# Altium footprint library PcbLib1.PcbLib: 23 footprints (part 2 of 2)
Each footprint in its own frame and in the unit in brackets; x right, y up, seen from the top. Pads: shape width x height; smd on the part's side, far side on the other; paste and mask are expansions set on the pad; w line width, h text height; cw(c..) or ccw(c..) is an arc to the next point about the centre after c.
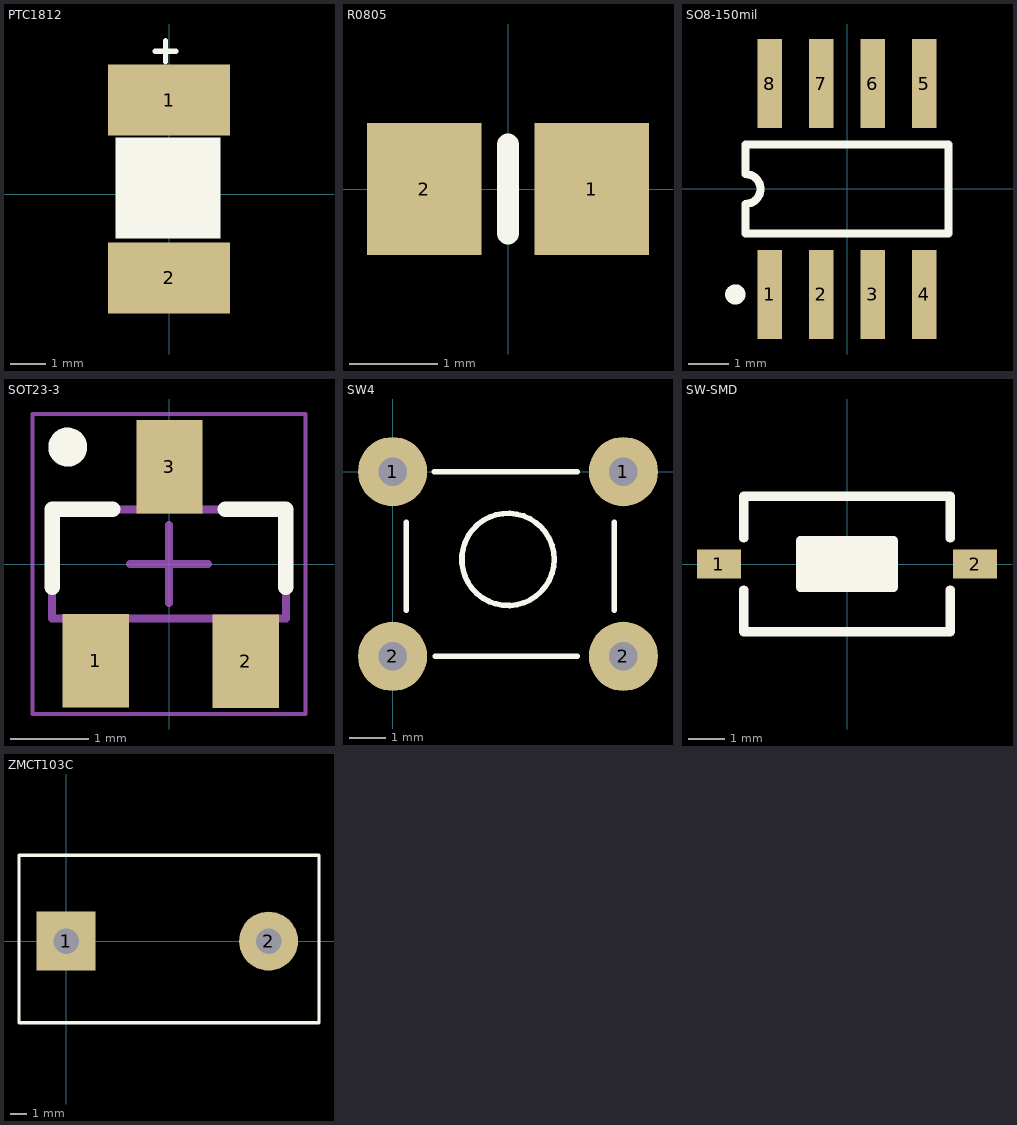
[diagram p1: the footprints below, top view; thin cyan lines are the x and y axes]

## PTC1812 [mm]
pads (2):
  rect 3.5x2.032 smd: 1(0,2.7) 2(0,-2.395)
Top Overlay:
  region: -1.529,1.633 -1.529,-1.267 1.471,-1.267 1.471,1.633
  lines w0.152: -0.4,4.098 0.2,4.098 ; -0.1,3.799 -0.1,4.4
3D body "SW3dPS-1812L.STEP": height 1.34, standoff 0, extent -1.734,-2.06 1.676,2.67

## R0805 [mm] "Chip Resistor; Body 2.0 x 1.2 mm (LxW typ)"
height 1.1
pads (2):
  rect 1.3x1.5 smd: 1(0.95,0) 2(-0.95,0)
Top Overlay:
  lines w0.254: 0,-0.5 0,0.5
3D body "Resistor0805.step": height 0.78, standoff 0, extent -1,-0.65 1,0.6

## SO8-150mil [mm] "Small Outline; 8 Leads; Body Width 3.9 mm; Pitch 1.27 mm"
height 1.75
pads (8):
  rect 0.6x2.2 smd: 1(-1.905,-2.6) 2(-0.635,-2.6) 3(0.635,-2.6) 4(1.905,-2.6) 5(1.905,2.6) 6(0.635,2.6) 7(-0.635,2.6) 8(-1.905,2.6)
Top Overlay:
  circle w0.25: c-2.755,-2.6 r0.125
  lines w0.2: -2.5,-1.1 2.5,-1.1 2.5,1.1 -2.5,1.1 -2.5,0.367 cw(c-2.5,0) -2.5,-0.367 -2.5,-1.1
3D body "so8-3.step": height 1.7, standoff 0, extent -2.5,-2.95 2.4,3.05

## SOT23-3 [mm] "2N7002KT1G"
pads (3):
  rect 0.85x1.2 smd: 1(-0.94,-1.245) 2(0.985,-1.25) 3(0.005,1.25)
Top Overlay:
  circle w0.25: c-1.3,1.5 r0.125
  lines w0.2: -1.5,-0.3 -1.5,0.7 -0.725,0.7 ; 0.725,0.7 1.5,0.7 1.5,-0.3
Mechanical 13:
  lines w0.1: -1.5,-0.7 1.5,-0.7 1.5,0.7 -1.5,0.7 -1.5,-0.7
Mechanical 15:
  lines w0.05: -1.75,-1.925 1.75,-1.925 1.75,1.925 -1.75,1.925 -1.75,-1.925
  lines w0.1: -0.5,0 0.5,0 ; 0,-0.5 0,0.5
3D body "SW3DPS-SOT-23-DEFAULT.STEP": height 1.06, standoff -0.04, extent -1.475,-1.326 1.525,1.174

## SW4 [mil] "SW button 4pin, 250 x250 mil"
height 100
pads (4):
  round 75 hole 31: 1(0,0) 1(250,0) 2(0,-200) 2(250,-200)
Top Overlay:
  circle w6: c125,-95 r50
  lines w6: 15,-150 15,-55 ; 45,0 200,0 ; 46,-200 200,-200 ; 240,-150 240,-55
  lines w7: 239,-215 240,-214
3D body "SW3dPS-.STEP": height 275.59, standoff -137.8, extent -35.51,-220 275.51,24.09

## SW-SMD [mm] "Switch SMD type"
pads (2):
  rect 1.2x0.8 smd: 1(-3.5,0) 2(3.5,0)
Top Overlay:
  rectangle: -1.268,-0.635 1.272,0.635
  lines w0.254: -2.819,-0.711 -2.819,-1.854 2.819,-1.854 2.819,-0.711 ; -2.819,0.711 -2.819,1.854 2.819,1.854 2.819,0.711 ; -1.27,-0.635 -1.27,0.635 1.27,0.635 1.27,-0.635 -1.27,-0.635
3D body "User Library-Button-SMD.step": height 2.5, standoff 0, extent -3.05,-1.85 3.05,1.85

## ZMCT103C [mm] "Connector; Header; 2 Position"
height 1.2
pads (2):
  rect 3.5x3.5 hole 1.5: 1(0,0)
  round 3.5 hole 1.5: 2(12,0)
Top Overlay:
  lines w0.2: -2.794,-4.826 14.986,-4.826 14.986,5.08 -2.794,5.08 -2.794,-4.826
3D body "Triad Magnetics-CST306-1A.STEP": height 22.83, standoff -3.64, extent -2.667,-4.699 14.859,5.08